# Altium schematic symbol library MAX-F10S-00B.SchLib: 1 symbol
Pins are listed as number, name and electrical type; pins without a type are passive.

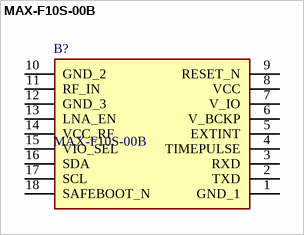
[diagram p0: symbol MAX-F10S-00B]

## MAX-F10S-00B
designator B?
GNSS / GPS Modules L1/L5 dual-band GNSS receiver for meter-level accuracy in urban environments; Manufacturer_Name: u-blox; Geometry.Height: 2.7mm; Mouser Part Number: 377-MAX-F10S-00B; Mouser Price/Stock: https://www.mouser.co.uk/ProductDetail/u-blox/MAX-F10S-00B?qs=By6Nw2ByBD2CW%252Biwf2Kjow%3D%3D; Manufacturer_Part_Number: MAX-F10S-00B; Datasheet Link: https://www.mouser.ph/ProductDetail/u-blox/MAX-F10S-00B?qs=By6Nw2ByBD2CW%252Biwf2Kjow%3D%3D
footprint MAXF10S00B
pins: 1 GND_1, 2 TXD, 3 RXD, 4 TIMEPULSE, 5 EXTINT, 6 V_BCKP, 7 V_IO, 8 VCC, 9 RESET_N, 10 GND_2, 11 RF_IN, 12 GND_3, 13 LNA_EN, 14 VCC_RF, 15 VIO_SEL, 16 SDA, 17 SCL, 18 SAFEBOOT_N